# Altium schematic symbol library SCH - MCU - RENESAS - RENESAS R7FS3A77XXXXXXFB 144LQFP.SchLib: 1 symbol
Pins are listed as number, name and electrical type; pins without a type are passive.

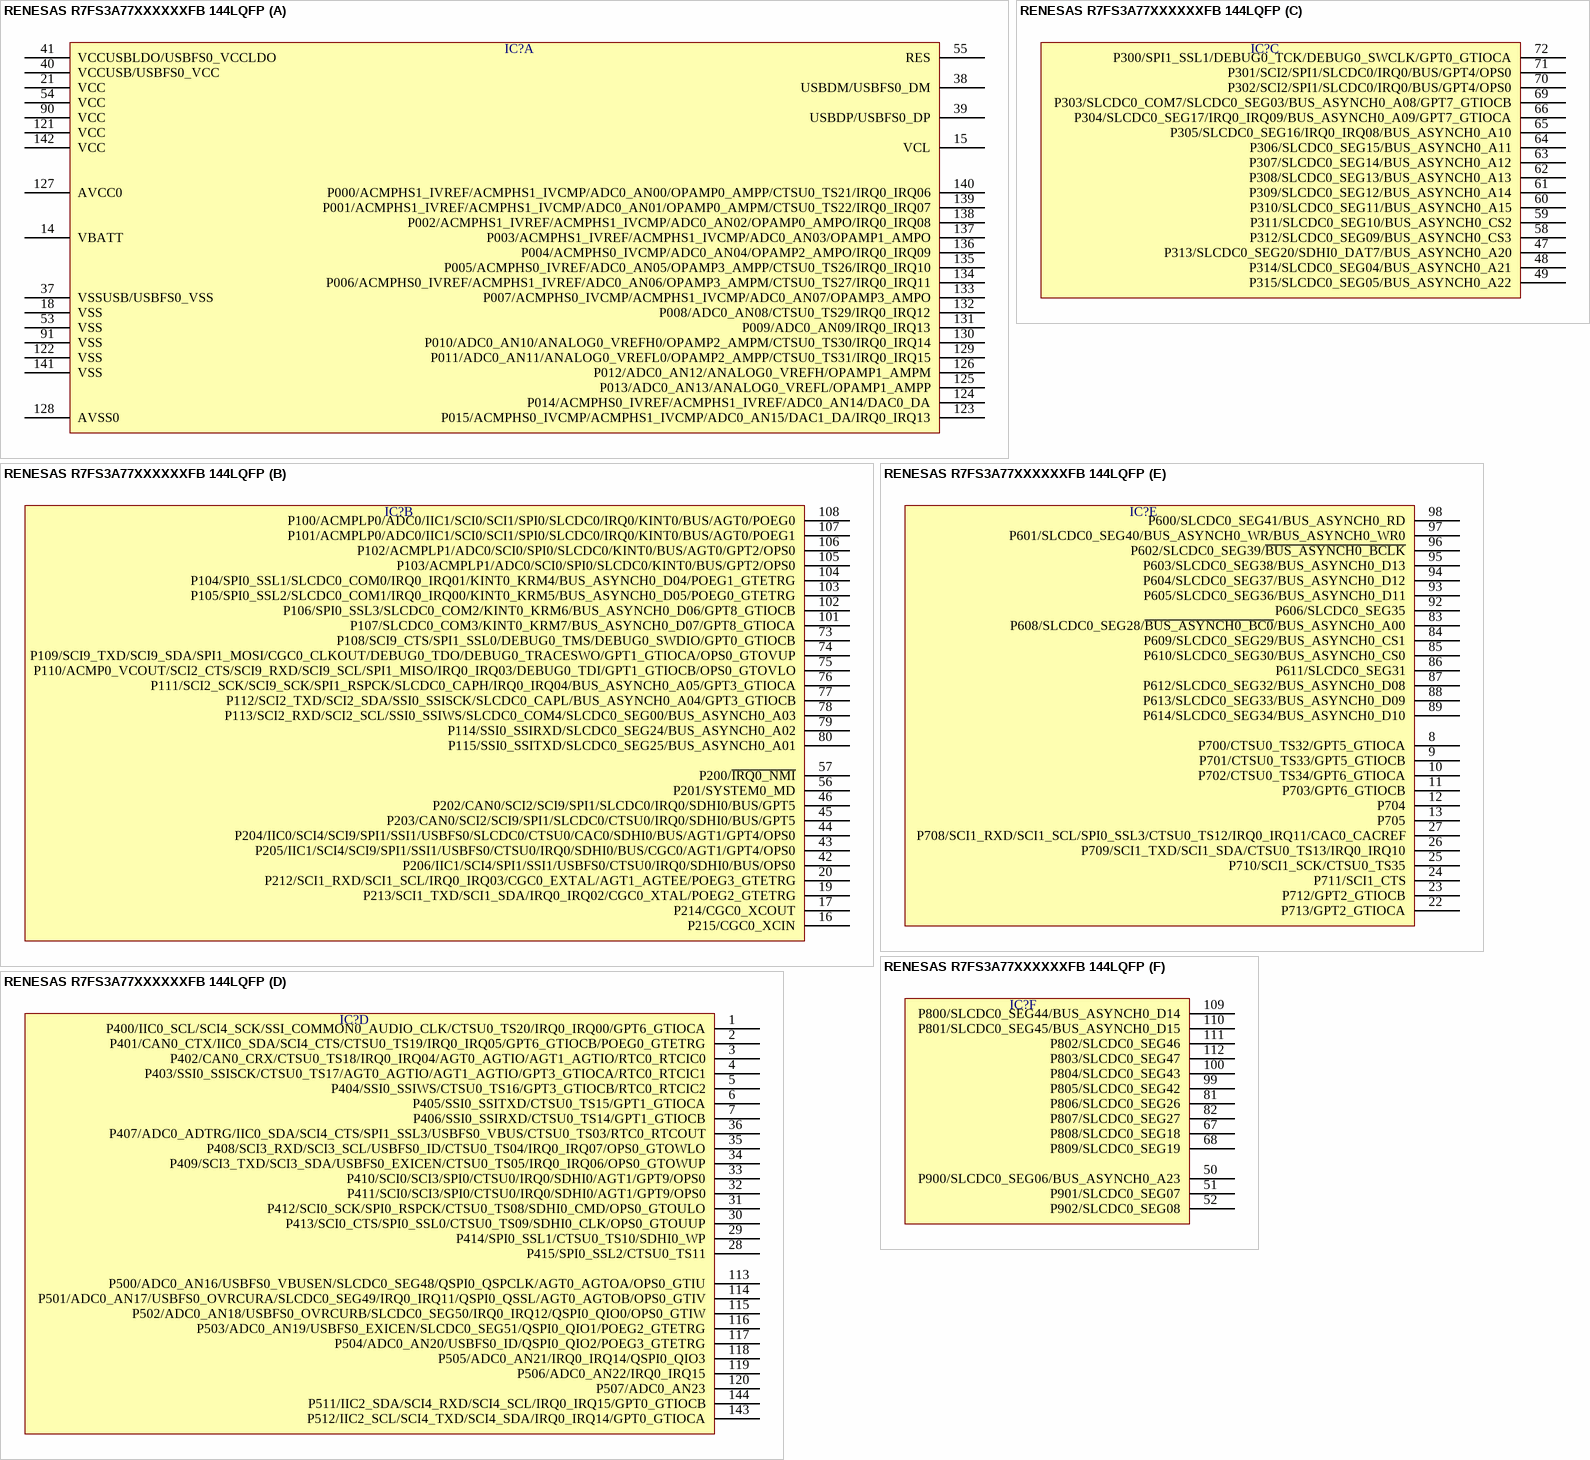
[diagram p0: symbol RENESAS R7FS3A77XXXXXXFB 144LQFP]

## RENESAS R7FS3A77XXXXXXFB 144LQFP
designator IC?  (value not drawn)
part A pins: 14 VBATT, 15 VCL, 18 VSS, 21 VCC, 37 VSSUSB/USBFS0_VSS, 38 USBDM/USBFS0_DM, 39 USBDP/USBFS0_DP, 40 VCCUSB/USBFS0_VCC, 41 VCCUSBLDO/USBFS0_VCCLDO, 53 VSS, 54 VCC, 55 RES, 90 VCC, 91 VSS, 121 VCC, 122 VSS, 123 P015/ACMPHS0_IVCMP/ACMPHS1_IVCMP/ADC0_AN15/DAC1_DA/IRQ0_IRQ13, 124 P014/ACMPHS0_IVREF/ACMPHS1_IVREF/ADC0_AN14/DAC0_DA, 125 P013/ADC0_AN13/ANALOG0_VREFL/OPAMP1_AMPP, 126 P012/ADC0_AN12/ANALOG0_VREFH/OPAMP1_AMPM, 127 AVCC0, 128 AVSS0, 129 P011/ADC0_AN11/ANALOG0_VREFL0/OPAMP2_AMPP/CTSU0_TS31/IRQ0_IRQ15, 130 P010/ADC0_AN10/ANALOG0_VREFH0/OPAMP2_AMPM/CTSU0_TS30/IRQ0_IRQ14, 131 P009/ADC0_AN09/IRQ0_IRQ13, 132 P008/ADC0_AN08/CTSU0_TS29/IRQ0_IRQ12, 133 P007/ACMPHS0_IVCMP/ACMPHS1_IVCMP/ADC0_AN07/OPAMP3_AMPO, 134 P006/ACMPHS0_IVREF/ACMPHS1_IVREF/ADC0_AN06/OPAMP3_AMPM/CTSU0_TS27/IRQ0_IRQ11, 135 P005/ACMPHS0_IVREF/ADC0_AN05/OPAMP3_AMPP/CTSU0_TS26/IRQ0_IRQ10, 136 P004/ACMPHS0_IVCMP/ADC0_AN04/OPAMP2_AMPO/IRQ0_IRQ09, 137 P003/ACMPHS1_IVREF/ACMPHS1_IVCMP/ADC0_AN03/OPAMP1_AMPO, 138 P002/ACMPHS1_IVREF/ACMPHS1_IVCMP/ADC0_AN02/OPAMP0_AMPO/IRQ0_IRQ08, 139 P001/ACMPHS1_IVREF/ACMPHS1_IVCMP/ADC0_AN01/OPAMP0_AMPM/CTSU0_TS22/IRQ0_IRQ07, 140 P000/ACMPHS1_IVREF/ACMPHS1_IVCMP/ADC0_AN00/OPAMP0_AMPP/CTSU0_TS21/IRQ0_IRQ06, 141 VSS, 142 VCC
part B pins: 16 P215/CGC0_XCIN, 17 P214/CGC0_XCOUT, 19 P213/SCI1_TXD/SCI1_SDA/IRQ0_IRQ02/CGC0_XTAL/POEG2_GTETRG, 20 P212/SCI1_RXD/SCI1_SCL/IRQ0_IRQ03/CGC0_EXTAL/AGT1_AGTEE/POEG3_GTETRG, 42 P206/IIC1/SCI4/SPI1/SSI1/USBFS0/CTSU0/IRQ0/SDHI0/BUS/OPS0, 43 P205/IIC1/SCI4/SCI9/SPI1/SSI1/USBFS0/CTSU0/IRQ0/SDHI0/BUS/CGC0/AGT1/GPT4/OPS0, 44 P204/IIC0/SCI4/SCI9/SPI1/SSI1/USBFS0/SLCDC0/CTSU0/CAC0/SDHI0/BUS/AGT1/GPT4/OPS0, 45 P203/CAN0/SCI2/SCI9/SPI1/SLCDC0/CTSU0/IRQ0/SDHI0/BUS/GPT5, 46 P202/CAN0/SCI2/SCI9/SPI1/SLCDC0/IRQ0/SDHI0/BUS/GPT5, 56 P201/SYSTEM0_MD, 57 P200/~{IRQ0_NMI}, 73 P108/SCI9_CTS/SPI1_SSL0/DEBUG0_TMS/DEBUG0_SWDIO/GPT0_GTIOCB, 74 P109/SCI9_TXD/SCI9_SDA/SPI1_MOSI/CGC0_CLKOUT/DEBUG0_TDO/DEBUG0_TRACESWO/GPT1_GTIOCA/OPS0_GTOVUP, 75 P110/ACMP0_VCOUT/SCI2_CTS/SCI9_RXD/SCI9_SCL/SPI1_MISO/IRQ0_IRQ03/DEBUG0_TDI/GPT1_GTIOCB/OPS0_GTOVLO, 76 P111/SCI2_SCK/SCI9_SCK/SPI1_RSPCK/SLCDC0_CAPH/IRQ0_IRQ04/BUS_ASYNCH0_A05/GPT3_GTIOCA, 77 P112/SCI2_TXD/SCI2_SDA/SSI0_SSISCK/SLCDC0_CAPL/BUS_ASYNCH0_A04/GPT3_GTIOCB, 78 P113/SCI2_RXD/SCI2_SCL/SSI0_SSIWS/SLCDC0_COM4/SLCDC0_SEG00/BUS_ASYNCH0_A03, 79 P114/SSI0_SSIRXD/SLCDC0_SEG24/BUS_ASYNCH0_A02, 80 P115/SSI0_SSITXD/SLCDC0_SEG25/BUS_ASYNCH0_A01, 101 P107/SLCDC0_COM3/KINT0_KRM7/BUS_ASYNCH0_D07/GPT8_GTIOCA, 102 P106/SPI0_SSL3/SLCDC0_COM2/KINT0_KRM6/BUS_ASYNCH0_D06/GPT8_GTIOCB, 103 P105/SPI0_SSL2/SLCDC0_COM1/IRQ0_IRQ00/KINT0_KRM5/BUS_ASYNCH0_D05/POEG0_GTETRG, 104 P104/SPI0_SSL1/SLCDC0_COM0/IRQ0_IRQ01/KINT0_KRM4/BUS_ASYNCH0_D04/POEG1_GTETRG, 105 P103/ACMPLP1/ADC0/SCI0/SPI0/SLCDC0/KINT0/BUS/GPT2/OPS0, 106 P102/ACMPLP1/ADC0/SCI0/SPI0/SLCDC0/KINT0/BUS/AGT0/GPT2/OPS0, 107 P101/ACMPLP0/ADC0/IIC1/SCI0/SCI1/SPI0/SLCDC0/IRQ0/KINT0/BUS/AGT0/POEG1, 108 P100/ACMPLP0/ADC0/IIC1/SCI0/SCI1/SPI0/SLCDC0/IRQ0/KINT0/BUS/AGT0/POEG0
part C pins: 47 P313/SLCDC0_SEG20/SDHI0_DAT7/BUS_ASYNCH0_A20, 48 P314/SLCDC0_SEG04/BUS_ASYNCH0_A21, 49 P315/SLCDC0_SEG05/BUS_ASYNCH0_A22, 58 P312/SLCDC0_SEG09/BUS_ASYNCH0_CS3, 59 P311/SLCDC0_SEG10/BUS_ASYNCH0_CS2, 60 P310/SLCDC0_SEG11/BUS_ASYNCH0_A15, 61 P309/SLCDC0_SEG12/BUS_ASYNCH0_A14, 62 P308/SLCDC0_SEG13/BUS_ASYNCH0_A13, 63 P307/SLCDC0_SEG14/BUS_ASYNCH0_A12, 64 P306/SLCDC0_SEG15/BUS_ASYNCH0_A11, 65 P305/SLCDC0_SEG16/IRQ0_IRQ08/BUS_ASYNCH0_A10, 66 P304/SLCDC0_SEG17/IRQ0_IRQ09/BUS_ASYNCH0_A09/GPT7_GTIOCA, 69 P303/SLCDC0_COM7/SLCDC0_SEG03/BUS_ASYNCH0_A08/GPT7_GTIOCB, 70 P302/SCI2/SPI1/SLCDC0/IRQ0/BUS/GPT4/OPS0, 71 P301/SCI2/SPI1/SLCDC0/IRQ0/BUS/GPT4/OPS0, 72 P300/SPI1_SSL1/DEBUG0_TCK/DEBUG0_SWCLK/GPT0_GTIOCA
part D pins: 1 P400/IIC0_SCL/SCI4_SCK/SSI_COMMON0_AUDIO_CLK/CTSU0_TS20/IRQ0_IRQ00/GPT6_GTIOCA, 2 P401/CAN0_CTX/IIC0_SDA/SCI4_CTS/CTSU0_TS19/IRQ0_IRQ05/GPT6_GTIOCB/POEG0_GTETRG, 3 P402/CAN0_CRX/CTSU0_TS18/IRQ0_IRQ04/AGT0_AGTIO/AGT1_AGTIO/RTC0_RTCIC0, 4 P403/SSI0_SSISCK/CTSU0_TS17/AGT0_AGTIO/AGT1_AGTIO/GPT3_GTIOCA/RTC0_RTCIC1, 5 P404/SSI0_SSIWS/CTSU0_TS16/GPT3_GTIOCB/RTC0_RTCIC2, 6 P405/SSI0_SSITXD/CTSU0_TS15/GPT1_GTIOCA, 7 P406/SSI0_SSIRXD/CTSU0_TS14/GPT1_GTIOCB, 28 P415/SPI0_SSL2/CTSU0_TS11, 29 P414/SPI0_SSL1/CTSU0_TS10/SDHI0_WP, 30 P413/SCI0_CTS/SPI0_SSL0/CTSU0_TS09/SDHI0_CLK/OPS0_GTOUUP, 31 P412/SCI0_SCK/SPI0_RSPCK/CTSU0_TS08/SDHI0_CMD/OPS0_GTOULO, 32 P411/SCI0/SCI3/SPI0/CTSU0/IRQ0/SDHI0/AGT1/GPT9/OPS0, 33 P410/SCI0/SCI3/SPI0/CTSU0/IRQ0/SDHI0/AGT1/GPT9/OPS0, 34 P409/SCI3_TXD/SCI3_SDA/USBFS0_EXICEN/CTSU0_TS05/IRQ0_IRQ06/OPS0_GTOWUP, 35 P408/SCI3_RXD/SCI3_SCL/USBFS0_ID/CTSU0_TS04/IRQ0_IRQ07/OPS0_GTOWLO, 36 P407/ADC0_ADTRG/IIC0_SDA/SCI4_CTS/SPI1_SSL3/USBFS0_VBUS/CTSU0_TS03/RTC0_RTCOUT, 113 P500/ADC0_AN16/USBFS0_VBUSEN/SLCDC0_SEG48/QSPI0_QSPCLK/AGT0_AGTOA/OPS0_GTIU, 114 P501/ADC0_AN17/USBFS0_OVRCURA/SLCDC0_SEG49/IRQ0_IRQ11/QSPI0_QSSL/AGT0_AGTOB/OPS0_GTIV, 115 P502/ADC0_AN18/USBFS0_OVRCURB/SLCDC0_SEG50/IRQ0_IRQ12/QSPI0_QIO0/OPS0_GTIW, 116 P503/ADC0_AN19/USBFS0_EXICEN/SLCDC0_SEG51/QSPI0_QIO1/POEG2_GTETRG, 117 P504/ADC0_AN20/USBFS0_ID/QSPI0_QIO2/POEG3_GTETRG, 118 P505/ADC0_AN21/IRQ0_IRQ14/QSPI0_QIO3, 119 P506/ADC0_AN22/IRQ0_IRQ15, 120 P507/ADC0_AN23, 143 P512/IIC2_SCL/SCI4_TXD/SCI4_SDA/IRQ0_IRQ14/GPT0_GTIOCA, 144 P511/IIC2_SDA/SCI4_RXD/SCI4_SCL/IRQ0_IRQ15/GPT0_GTIOCB
part E pins: 8 P700/CTSU0_TS32/GPT5_GTIOCA, 9 P701/CTSU0_TS33/GPT5_GTIOCB, 10 P702/CTSU0_TS34/GPT6_GTIOCA, 11 P703/GPT6_GTIOCB, 12 P704, 13 P705, 22 P713/GPT2_GTIOCA, 23 P712/GPT2_GTIOCB, 24 P711/SCI1_CTS, 25 P710/SCI1_SCK/CTSU0_TS35, 26 P709/SCI1_TXD/SCI1_SDA/CTSU0_TS13/IRQ0_IRQ10, 27 P708/SCI1_RXD/SCI1_SCL/SPI0_SSL3/CTSU0_TS12/IRQ0_IRQ11/CAC0_CACREF, 83 P608/SLCDC0_SEG28/~{BUS_ASYNCH0_BC0}/BUS_ASYNCH0_A00, 84 P609/SLCDC0_SEG29/BUS_ASYNCH0_CS1, 85 P610/SLCDC0_SEG30/BUS_ASYNCH0_CS0, 86 P611/SLCDC0_SEG31, 87 P612/SLCDC0_SEG32/BUS_ASYNCH0_D08, 88 P613/SLCDC0_SEG33/BUS_ASYNCH0_D09, 89 P614/SLCDC0_SEG34/BUS_ASYNCH0_D10, 92 P606/SLCDC0_SEG35, 93 P605/SLCDC0_SEG36/BUS_ASYNCH0_D11, 94 P604/SLCDC0_SEG37/BUS_ASYNCH0_D12, 95 P603/SLCDC0_SEG38/BUS_ASYNCH0_D13, 96 P602/SLCDC0_SEG39/~{BUS_ASYNCH0_BCLK}, 97 P601/SLCDC0_SEG40/BUS_ASYNCH0_WR/BUS_ASYNCH0_WR0, 98 P600/SLCDC0_SEG41/BUS_ASYNCH0_RD
part F pins: 50 P900/SLCDC0_SEG06/BUS_ASYNCH0_A23, 51 P901/SLCDC0_SEG07, 52 P902/SLCDC0_SEG08, 67 P808/SLCDC0_SEG18, 68 P809/SLCDC0_SEG19, 81 P806/SLCDC0_SEG26, 82 P807/SLCDC0_SEG27, 99 P805/SLCDC0_SEG42, 100 P804/SLCDC0_SEG43, 109 P800/SLCDC0_SEG44/BUS_ASYNCH0_D14, 110 P801/SLCDC0_SEG45/BUS_ASYNCH0_D15, 111 P802/SLCDC0_SEG46, 112 P803/SLCDC0_SEG47